# Altium footprint library FPC_64.PcbLib: 1 footprints
Each footprint in its own frame and in the unit in brackets; x right, y up, seen from the top. Pads: shape width x height; smd on the part's side, far side on the other; paste and mask are expansions set on the pad; w line width, h text height; cw(c..) or ccw(c..) is an arc to the next point about the centre after c.
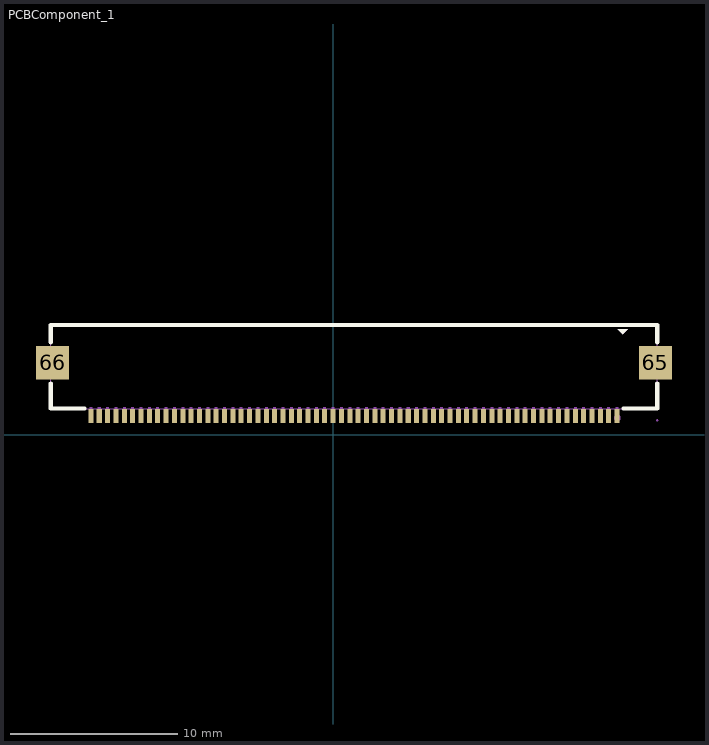
[diagram p0: the footprint, top view; thin cyan lines are the x and y axes]

## PCBComponent_1 [mm]
pads (66):
  rect 0.3x0.85 smd paste+0 mask+0.05: 1(16.999,1.143) 2(16.499,1.143) 3(15.999,1.143) 4(15.499,1.143) 5(14.999,1.143) 6(14.499,1.143) 7(13.999,1.143) 8(13.499,1.143) 9(12.999,1.143) 10(12.499,1.143) 11(11.999,1.143) 12(11.499,1.143) 13(10.999,1.143) 14(10.499,1.143) 15(9.999,1.143) 16(9.499,1.143) 17(8.999,1.143) 18(8.499,1.143) 19(7.999,1.143) 20(7.499,1.143) 21(6.999,1.143) 22(6.499,1.143) 23(5.999,1.143) 24(5.499,1.143) 25(4.999,1.143) 26(4.499,1.143) 27(3.999,1.143) 28(3.499,1.143) 29(2.999,1.143) 30(2.499,1.143) 31(1.999,1.143) 32(1.499,1.143) 33(0.999,1.143) 34(0.499,1.143) 35(-0.001,1.143) 36(-0.501,1.143) 37(-1.001,1.143) 38(-1.501,1.143) 39(-2.001,1.143) 40(-2.501,1.143) 41(-3.001,1.143) 42(-3.501,1.143) 43(-4.001,1.143) 44(-4.501,1.143) 45(-5.001,1.143) 46(-5.501,1.143) 47(-6.001,1.143) 48(-6.501,1.143) 49(-7.001,1.143) 50(-7.501,1.143) 51(-8.001,1.143) 52(-8.501,1.143) 53(-9.001,1.143) 54(-9.501,1.143) 55(-10.001,1.143) 56(-10.501,1.143) 57(-11.001,1.143) 58(-11.501,1.143) 59(-12.001,1.143) 60(-12.501,1.143) 61(-13.001,1.143) 62(-13.501,1.143) 63(-14.001,1.143) 64(-14.501,1.143)
  rect 2x2 smd paste+0 mask+0.05: 65(19.301,4.317) 66(-16.799,4.317)
Top Overlay:
  region: 17.051,6.33 17.651,6.33 17.351,6.03
  lines w0.254: -16.899,3.086 -16.899,1.58 -14.882,1.58 ; -16.899,5.549 -16.899,6.58 19.401,6.58 19.401,5.549 ; 17.38,1.58 19.401,1.58 19.401,3.086
Mechanical 6:
  circle w0.2: c17.021,1.021 r0.1
  region: 17.052,6.33 17.652,6.33 17.352,6.03
Mechanical 15:
  drawing of 71 lines, arcs and shapes, not listed